# Altium footprint library cap.PcbLib: 78 footprints (part 2 of 5)
Each footprint in its own frame and in the unit in brackets; x right, y up, seen from the top. Pads: shape width x height; smd on the part's side, far side on the other; paste and mask are expansions set on the pad; w line width, h text height; cw(c..) or ccw(c..) is an arc to the next point about the centre after c.
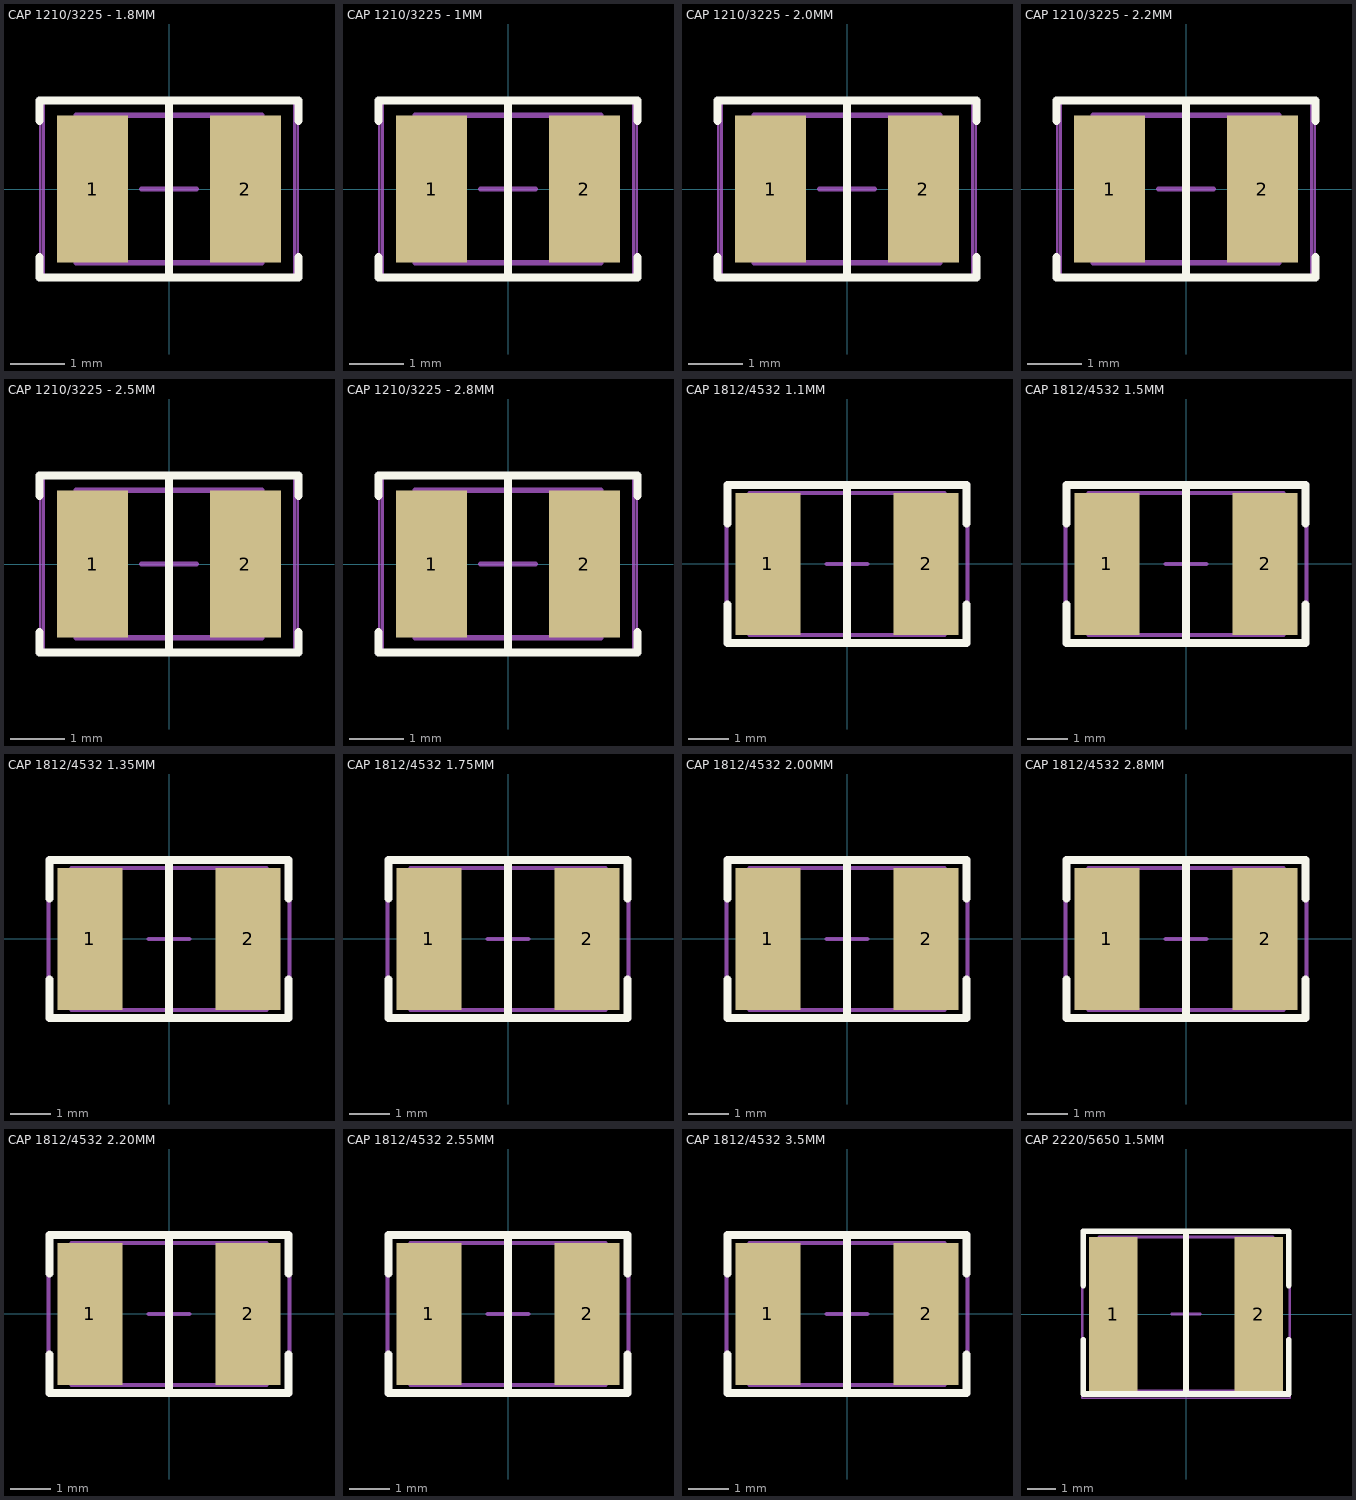
[diagram p1: the footprints below, top view; thin cyan lines are the x and y axes]

## CAP 1210/3225 - 1.8MM [mm] "Chip Capacitor, 2-Leads, Body 3.20x2.50mm, IPC Medium Density"
height 1.8
pads (2):
  rect 1.3x2.7 smd: 1(-1.4,0) 2(1.4,0)
Top Overlay:
  lines w0.15: -2.375,-1.25 -2.375,-1.625 2.375,-1.625 2.375,-1.25 ; -2.375,1.25 -2.375,1.625 2.375,1.625 2.375,1.25 ; 0,-1.625 0,1.625
Mechanical 13:
  lines w0.1: -1.7,-1.35 1.7,-1.35 1.7,1.35 -1.7,1.35 -1.7,-1.35
M15:
  lines w0.051: -2.362,-1.626 2.362,-1.626 2.362,1.626 -2.362,1.626 -2.362,-1.626
  text ".Designator" at -0.813,-0.559 h2.03
Comment:
  lines w0.051: -2.362,-1.626 -2.362,1.626 2.362,1.626 2.362,-1.626 -2.362,-1.626
  text "'.Comment'" at -0.813,-0.559 h2.03
Mechanical 19:
  lines w0.05: -2.3,-1.6 -2.3,1.6 2.3,1.6 2.3,-1.6 -2.3,-1.6
  lines w0.1: -0.5,0 0.5,0 ; 0,-0.5 0,0.5
3D body "CAP 1210-1.8mm.STEP": height 1.8, standoff 0, extent -1.6,-1.25 1.6,1.25

## CAP 1210/3225 - 1MM [mm] "Chip Capacitor, 2-Leads, Body 3.20x2.50mm, IPC Medium Density"
height 1
pads (2):
  rect 1.3x2.7 smd: 1(-1.4,0) 2(1.4,0)
Top Overlay:
  lines w0.15: -2.375,-1.25 -2.375,-1.625 2.375,-1.625 2.375,-1.25 ; -2.375,1.25 -2.375,1.625 2.375,1.625 2.375,1.25 ; 0,-1.625 0,1.625
Mechanical 13:
  lines w0.1: -1.7,-1.35 1.7,-1.35 1.7,1.35 -1.7,1.35 -1.7,-1.35
M15:
  lines w0.051: -2.362,-1.626 2.362,-1.626 2.362,1.626 -2.362,1.626 -2.362,-1.626
  text ".Designator" at -0.813,-0.559 h2.03
Comment:
  lines w0.051: -2.362,-1.626 -2.362,1.626 2.362,1.626 2.362,-1.626 -2.362,-1.626
  text "'.Comment'" at -0.813,-0.559 h2.03
Mechanical 19:
  lines w0.05: -2.3,-1.6 -2.3,1.6 2.3,1.6 2.3,-1.6 -2.3,-1.6
  lines w0.1: -0.5,0 0.5,0 ; 0,-0.5 0,0.5
3D body "CAP 1210-1mm.STEP": height 1, standoff 0, extent -1.6,-1.25 1.6,1.25

## CAP 1210/3225 - 2.0MM [mm] "Chip Capacitor, 2-Leads, Body 3.20x2.50mm, IPC Medium Density"
height 2
pads (2):
  rect 1.3x2.7 smd: 1(-1.4,0) 2(1.4,0)
Top Overlay:
  lines w0.15: -2.375,-1.25 -2.375,-1.625 2.375,-1.625 2.375,-1.25 ; -2.375,1.25 -2.375,1.625 2.375,1.625 2.375,1.25 ; 0,-1.625 0,1.625
Mechanical 13:
  lines w0.1: -1.7,-1.35 1.7,-1.35 1.7,1.35 -1.7,1.35 -1.7,-1.35
M15:
  lines w0.051: -2.362,-1.626 2.362,-1.626 2.362,1.626 -2.362,1.626 -2.362,-1.626
  text ".Designator" at -0.813,-0.559 h2.03
Comment:
  lines w0.051: -2.362,-1.626 -2.362,1.626 2.362,1.626 2.362,-1.626 -2.362,-1.626
  text "'.Comment'" at -0.813,-0.559 h2.03
Mechanical 19:
  lines w0.05: -2.3,-1.6 -2.3,1.6 2.3,1.6 2.3,-1.6 -2.3,-1.6
  lines w0.1: -0.5,0 0.5,0 ; 0,-0.5 0,0.5
3D body "CAP 1210-2.0mm.STEP": height 2, standoff 0, extent -1.6,-1.25 1.6,1.25

## CAP 1210/3225 - 2.2MM [mm] "Chip Capacitor, 2-Leads, Body 3.20x2.50mm, IPC Medium Density"
height 2.2
pads (2):
  rect 1.3x2.7 smd: 1(-1.4,0) 2(1.4,0)
Top Overlay:
  lines w0.15: -2.375,-1.25 -2.375,-1.625 2.375,-1.625 2.375,-1.25 ; -2.375,1.25 -2.375,1.625 2.375,1.625 2.375,1.25 ; 0,-1.625 0,1.625
Mechanical 13:
  lines w0.1: -1.7,-1.35 1.7,-1.35 1.7,1.35 -1.7,1.35 -1.7,-1.35
M15:
  lines w0.051: -2.362,-1.626 2.362,-1.626 2.362,1.626 -2.362,1.626 -2.362,-1.626
  text ".Designator" at -0.813,-0.559 h2.03
Comment:
  lines w0.051: -2.362,-1.626 -2.362,1.626 2.362,1.626 2.362,-1.626 -2.362,-1.626
  text "'.Comment'" at -0.813,-0.559 h2.03
Mechanical 19:
  lines w0.05: -2.3,-1.6 -2.3,1.6 2.3,1.6 2.3,-1.6 -2.3,-1.6
  lines w0.1: -0.5,0 0.5,0 ; 0,-0.5 0,0.5
3D body "CAP 1210-2.2mm.STEP": height 2.2, standoff 0, extent -1.6,-1.25 1.6,1.25

## CAP 1210/3225 - 2.5MM [mm] "Chip Capacitor, 2-Leads, Body 3.20x2.50mm, IPC Medium Density"
height 2.5
pads (2):
  rect 1.3x2.7 smd: 1(-1.4,0) 2(1.4,0)
Top Overlay:
  lines w0.15: -2.375,-1.25 -2.375,-1.625 2.375,-1.625 2.375,-1.25 ; -2.375,1.25 -2.375,1.625 2.375,1.625 2.375,1.25 ; 0,-1.625 0,1.625
Mechanical 13:
  lines w0.1: -1.7,-1.35 1.7,-1.35 1.7,1.35 -1.7,1.35 -1.7,-1.35
M15:
  lines w0.051: -2.362,-1.626 2.362,-1.626 2.362,1.626 -2.362,1.626 -2.362,-1.626
  text ".Designator" at -0.813,-0.559 h2.03
Comment:
  lines w0.051: -2.362,-1.626 -2.362,1.626 2.362,1.626 2.362,-1.626 -2.362,-1.626
  text "'.Comment'" at -0.813,-0.559 h2.03
Mechanical 19:
  lines w0.05: -2.3,-1.6 -2.3,1.6 2.3,1.6 2.3,-1.6 -2.3,-1.6
  lines w0.1: -0.5,0 0.5,0 ; 0,-0.5 0,0.5
3D body "CAP 1210-2.5mm.STEP": height 2.5, standoff 0, extent -1.6,-1.25 1.6,1.25

## CAP 1210/3225 - 2.8MM [mm] "Chip Capacitor, 2-Leads, Body 3.20x2.50mm, IPC Medium Density"
height 2.8
pads (2):
  rect 1.3x2.7 smd: 1(-1.4,0) 2(1.4,0)
Top Overlay:
  lines w0.15: -2.375,-1.25 -2.375,-1.625 2.375,-1.625 2.375,-1.25 ; -2.375,1.25 -2.375,1.625 2.375,1.625 2.375,1.25 ; 0,-1.625 0,1.625
Mechanical 13:
  lines w0.1: -1.7,-1.35 1.7,-1.35 1.7,1.35 -1.7,1.35 -1.7,-1.35
M15:
  lines w0.051: -2.362,-1.626 2.362,-1.626 2.362,1.626 -2.362,1.626 -2.362,-1.626
  text ".Designator" at -0.813,-0.559 h2.03
Comment:
  lines w0.051: -2.362,-1.626 -2.362,1.626 2.362,1.626 2.362,-1.626 -2.362,-1.626
  text "'.Comment'" at -0.813,-0.559 h2.03
Mechanical 19:
  lines w0.05: -2.3,-1.6 -2.3,1.6 2.3,1.6 2.3,-1.6 -2.3,-1.6
  lines w0.1: -0.5,0 0.5,0 ; 0,-0.5 0,0.5
3D body "CAP 1210-2.8mm.STEP": height 2.8, standoff 0, extent -1.6,-1.25 1.6,1.25

## CAP 1812/4532 1.1MM [mm] "Chip Capacitor, 2-Leads, Body 4.50x3.20mm, IPC Medium Density"
height 1.1
pads (2):
  rect 1.6x3.5 smd: 1(-1.95,0) 2(1.95,0)
Top Overlay:
  lines w0.2: -2.95,-1 -2.95,-1.95 2.95,-1.95 2.95,-1 ; -2.95,1 -2.95,1.95 2.95,1.95 2.95,1 ; 0,-1.95 0,1.95
Mechanical 13:
  lines w0.1: -2.4,-1.75 -2.4,1.75 2.4,1.75 2.4,-1.75 -2.4,-1.75
M15:
  lines w0.051: -2.946,-1.956 2.946,-1.956 2.946,1.956 -2.946,1.956 -2.946,-1.956
  text ".Designator" at -0.813,-0.559 h2.03
Comment:
  lines w0.051: -2.946,-1.956 -2.946,1.956 2.946,1.956 2.946,-1.956 -2.946,-1.956
  text "'.Comment'" at -0.813,-0.559 h2.03
Mechanical 19:
  lines w0.05: -3,-2 -3,2 3,2 3,-2 -3,-2
  lines w0.1: -0.5,0 0.5,0 ; 0,-0.5 0,0.5
3D body "CAP 1812-1.1mm.STEP": height 1.1, standoff 0, extent -2.25,-1.6 2.25,1.6

## CAP 1812/4532 1.5MM [mm] "Chip Capacitor, 2-Leads, Body 4.50x3.20mm, IPC Medium Density"
height 1.5
pads (2):
  rect 1.6x3.5 smd: 1(-1.95,0) 2(1.95,0)
Top Overlay:
  lines w0.2: -2.95,-1 -2.95,-1.95 2.95,-1.95 2.95,-1 ; -2.95,1 -2.95,1.95 2.95,1.95 2.95,1 ; 0,-1.95 0,1.95
Mechanical 13:
  lines w0.1: -2.4,-1.75 -2.4,1.75 2.4,1.75 2.4,-1.75 -2.4,-1.75
M15:
  lines w0.051: -2.946,-1.956 2.946,-1.956 2.946,1.956 -2.946,1.956 -2.946,-1.956
  text ".Designator" at -0.813,-0.559 h2.03
Comment:
  lines w0.051: -2.946,-1.956 2.946,-1.956 2.946,1.956 -2.946,1.956 -2.946,-1.956
  text "'.Comment'" at -0.813,-0.559 h2.03
Mechanical 19:
  lines w0.05: -3,-2 3,-2 3,2 -3,2 -3,-2
  lines w0.1: -0.5,0 0.5,0 ; 0,-0.5 0,0.5
3D body "CAP 1812-1.5mm.STEP": height 1.5, standoff 0, extent -2.25,-1.6 2.25,1.6

## CAP 1812/4532 1.35MM [mm] "Chip Capacitor, 2-Leads, Body 4.50x3.20mm, IPC Medium Density"
height 1.35
pads (2):
  rect 1.6x3.5 smd: 1(-1.95,0) 2(1.95,0)
Top Overlay:
  lines w0.2: -2.95,-1 -2.95,-1.95 2.95,-1.95 2.95,-1 ; -2.95,1 -2.95,1.95 2.95,1.95 2.95,1 ; 0,-1.95 0,1.95
Mechanical 13:
  lines w0.1: -2.4,-1.75 2.4,-1.75 2.4,1.75 -2.4,1.75 -2.4,-1.75
M15:
  lines w0.051: -2.946,-1.956 2.946,-1.956 2.946,1.956 -2.946,1.956 -2.946,-1.956
  text ".Designator" at -0.813,-0.559 h2.03
Comment:
  lines w0.051: -2.946,-1.956 2.946,-1.956 2.946,1.956 -2.946,1.956 -2.946,-1.956
  text "'.Comment'" at -0.813,-0.559 h2.03
Mechanical 19:
  lines w0.05: -3,-2 -3,2 3,2 3,-2 -3,-2
  lines w0.1: -0.5,0 0.5,0 ; 0,-0.5 0,0.5
3D body "CAP 1812-1.35mm.STEP": height 1.35, standoff 0, extent -2.25,-1.6 2.25,1.6

## CAP 1812/4532 1.75MM [mm] "Chip Capacitor, 2-Leads, Body 4.50x3.20mm, IPC Medium Density"
height 1.75
pads (2):
  rect 1.6x3.5 smd: 1(-1.95,0) 2(1.95,0)
Top Overlay:
  lines w0.2: -2.95,-1 -2.95,-1.95 2.95,-1.95 2.95,-1 ; -2.95,1 -2.95,1.95 2.95,1.95 2.95,1 ; 0,-1.95 0,1.95
Mechanical 13:
  lines w0.1: -2.4,-1.75 -2.4,1.75 2.4,1.75 2.4,-1.75 -2.4,-1.75
M15:
  lines w0.051: -2.946,-1.956 2.946,-1.956 2.946,1.956 -2.946,1.956 -2.946,-1.956
  text ".Designator" at -0.813,-0.559 h2.03
Comment:
  lines w0.051: -2.946,-1.956 2.946,-1.956 2.946,1.956 -2.946,1.956 -2.946,-1.956
  text "'.Comment'" at -0.813,-0.559 h2.03
Mechanical 19:
  lines w0.05: -3,-2 3,-2 3,2 -3,2 -3,-2
  lines w0.1: -0.5,0 0.5,0 ; 0,-0.5 0,0.5
3D body "CAP 1812-1.75mm.STEP": height 1.75, standoff 0, extent -2.25,-1.6 2.25,1.6

## CAP 1812/4532 2.00MM [mm] "Chip Capacitor, 2-Leads, Body 4.50x3.20mm, IPC Medium Density"
height 2
pads (2):
  rect 1.6x3.5 smd: 1(-1.95,0) 2(1.95,0)
Top Overlay:
  lines w0.2: -2.95,-1 -2.95,-1.95 2.95,-1.95 2.95,-1 ; -2.95,1 -2.95,1.95 2.95,1.95 2.95,1 ; 0,-1.95 0,1.95
Mechanical 13:
  lines w0.1: -2.4,-1.75 2.4,-1.75 2.4,1.75 -2.4,1.75 -2.4,-1.75
M15:
  lines w0.051: -2.946,-1.956 2.946,-1.956 2.946,1.956 -2.946,1.956 -2.946,-1.956
  text ".Designator" at -0.813,-0.559 h2.03
Comment:
  lines w0.051: -2.946,-1.956 2.946,-1.956 2.946,1.956 -2.946,1.956 -2.946,-1.956
  text "'.Comment'" at -0.813,-0.559 h2.03
Mechanical 19:
  lines w0.05: -3,-2 3,-2 3,2 -3,2 -3,-2
  lines w0.1: -0.5,0 0.5,0 ; 0,-0.5 0,0.5
3D body "CAP 1812-2.00mm.STEP": height 2, standoff 0, extent -2.25,-1.6 2.25,1.6

## CAP 1812/4532 2.8MM [mm] "Chip Capacitor, 2-Leads, Body 4.50x3.20mm, IPC Medium Density"
height 2.8
pads (2):
  rect 1.6x3.5 smd: 1(-1.95,0) 2(1.95,0)
Top Overlay:
  lines w0.2: -2.95,-1 -2.95,-1.95 2.95,-1.95 2.95,-1 ; -2.95,1 -2.95,1.95 2.95,1.95 2.95,1 ; 0,-1.95 0,1.95
Mechanical 13:
  lines w0.1: -2.4,-1.75 2.4,-1.75 2.4,1.75 -2.4,1.75 -2.4,-1.75
M15:
  lines w0.051: -2.946,-1.956 2.946,-1.956 2.946,1.956 -2.946,1.956 -2.946,-1.956
  text ".Designator" at -0.813,-0.559 h2.03
Comment:
  lines w0.051: -2.946,-1.956 2.946,-1.956 2.946,1.956 -2.946,1.956 -2.946,-1.956
  text "'.Comment'" at -0.813,-0.559 h2.03
Mechanical 19:
  lines w0.05: -3,-2 3,-2 3,2 -3,2 -3,-2
  lines w0.1: -0.5,0 0.5,0 ; 0,-0.5 0,0.5
3D body "CAP 1812-2.8mm.STEP": height 2.8, standoff 0, extent -2.25,-1.6 2.25,1.6

## CAP 1812/4532 2.20MM [mm] "Chip Capacitor, 2-Leads, Body 4.50x3.20mm, IPC Medium Density"
height 2.2
pads (2):
  rect 1.6x3.5 smd: 1(-1.95,0) 2(1.95,0)
Top Overlay:
  lines w0.2: -2.95,-1 -2.95,-1.95 2.95,-1.95 2.95,-1 ; -2.95,1 -2.95,1.95 2.95,1.95 2.95,1 ; 0,-1.95 0,1.95
Mechanical 13:
  lines w0.1: -2.4,-1.75 2.4,-1.75 2.4,1.75 -2.4,1.75 -2.4,-1.75
M15:
  lines w0.051: -2.946,-1.956 2.946,-1.956 2.946,1.956 -2.946,1.956 -2.946,-1.956
  text ".Designator" at -0.813,-0.559 h2.03
Comment:
  lines w0.051: -2.946,-1.956 2.946,-1.956 2.946,1.956 -2.946,1.956 -2.946,-1.956
  text "'.Comment'" at -0.813,-0.559 h2.03
Mechanical 19:
  lines w0.05: -3,-2 -3,2 3,2 3,-2 -3,-2
  lines w0.1: -0.5,0 0.5,0 ; 0,-0.5 0,0.5
3D body "CAP 1812-2.20mm.STEP": height 2.2, standoff 0, extent -2.25,-1.6 2.25,1.6

## CAP 1812/4532 2.55MM [mm] "Chip Capacitor, 2-Leads, Body 4.50x3.20mm, IPC Medium Density"
height 2.55
pads (2):
  rect 1.6x3.5 smd: 1(-1.95,0) 2(1.95,0)
Top Overlay:
  lines w0.2: -2.95,-1 -2.95,-1.95 2.95,-1.95 2.95,-1 ; -2.95,1 -2.95,1.95 2.95,1.95 2.95,1 ; 0,-1.95 0,1.95
Mechanical 13:
  lines w0.1: -2.4,-1.75 2.4,-1.75 2.4,1.75 -2.4,1.75 -2.4,-1.75
M15:
  lines w0.051: -2.946,-1.956 2.946,-1.956 2.946,1.956 -2.946,1.956 -2.946,-1.956
  text ".Designator" at -0.813,-0.559 h2.03
Comment:
  lines w0.051: -2.946,-1.956 2.946,-1.956 2.946,1.956 -2.946,1.956 -2.946,-1.956
  text "'.Comment'" at -0.813,-0.559 h2.03
Mechanical 19:
  lines w0.05: -3,-2 3,-2 3,2 -3,2 -3,-2
  lines w0.1: -0.5,0 0.5,0 ; 0,-0.5 0,0.5
3D body "CAP 1812-2.55mm.STEP": height 2.55, standoff 0, extent -2.25,-1.6 2.25,1.6

## CAP 1812/4532 3.5MM [mm] "Chip Capacitor, 2-Leads, Body 4.50x3.20mm, IPC Medium Density"
height 3.5
pads (2):
  rect 1.6x3.5 smd: 1(-1.95,0) 2(1.95,0)
Top Overlay:
  lines w0.2: -2.95,-1 -2.95,-1.95 2.95,-1.95 2.95,-1 ; -2.95,1 -2.95,1.95 2.95,1.95 2.95,1 ; 0,-1.95 0,1.95
Mechanical 13:
  lines w0.1: -2.4,-1.75 2.4,-1.75 2.4,1.75 -2.4,1.75 -2.4,-1.75
M15:
  lines w0.051: -2.946,-1.956 2.946,-1.956 2.946,1.956 -2.946,1.956 -2.946,-1.956
  text ".Designator" at -0.813,-0.559 h2.03
Comment:
  lines w0.051: -2.946,-1.956 2.946,-1.956 2.946,1.956 -2.946,1.956 -2.946,-1.956
  text "'.Comment'" at -0.813,-0.559 h2.03
Mechanical 19:
  lines w0.05: -3,-2 3,-2 3,2 -3,2 -3,-2
  lines w0.1: -0.5,0 0.5,0 ; 0,-0.5 0,0.5
3D body "CAP 1812-3.5mm.STEP": height 3.5, standoff 0, extent -2.25,-1.6 2.25,1.6

## CAP 2220/5650 1.5MM [mm] "Chip Capacitor, 2-Leads, Body 5.70x5.00mm, IPC Medium Density"
height 1.5
pads (2):
  rect 1.7x5.4 smd: 1(-2.55,0) 2(2.55,0)
Top Overlay:
  lines w0.2: -3.6,-0.9 -3.6,-2.8 3.6,-2.8 3.6,-0.9 ; -3.6,1 -3.6,2.9 3.6,2.9 3.6,1 ; 0,-2.8 0,2.9
Mechanical 13:
  lines w0.1: -3.05,-2.7 3.05,-2.7 3.05,2.7 -3.05,2.7 -3.05,-2.7
M15:
  lines w0.051: -3.607,-2.794 3.607,-2.794 3.607,2.896 -3.607,2.896 -3.607,-2.794
  text ".Designator" at -0.813,-0.559 h2.03
Comment:
  lines w0.051: -3.607,-2.794 -3.607,2.896 3.607,2.896 3.607,-2.794 -3.607,-2.794
  text "'.Comment'" at -0.813,-0.559 h2.03
Mechanical 19:
  lines w0.05: -3.65,-2.95 3.65,-2.95 3.65,2.95 -3.65,2.95 -3.65,-2.95
  lines w0.1: -0.5,0 0.5,0 ; 0,-0.5 0,0.5
3D body "CAP 2020-1.5mm.STEP": height 1.5, standoff 0, extent -2.85,-2.5 2.85,2.5